# Altium schematic symbol library Schlib7.SchLib: 1 symbol
Pins are listed as number, name and electrical type; pins without a type are passive.

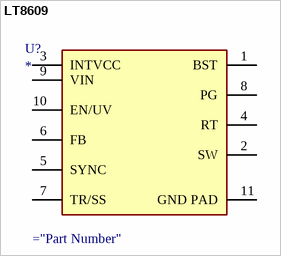
[diagram p0: symbol LT8609]

## LT8609
designator U?
footprint 10-Lead Plastic MSOP
pins: 1 BST, 2 SW, 3 INTVCC, 4 RT, 5 SYNC, 6 FB, 7 TR/SS, 8 PG, 9 VIN, 10 EN/UV, 11 GND PAD